# Altium schematic symbol library LORASX1278SENSOR.SchLib: 1 symbol
Pins are listed as number, name and electrical type; pins without a type are passive.

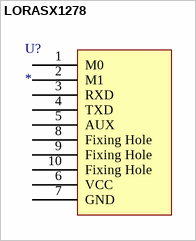
[diagram p0: symbol LORASX1278]

## LORASX1278
designator U?
footprint QFN65P600X600X100_HS-29N (QFN, 28-Leads, Body 6,00x6,00mm, Pitch 0,65mm, Thermal Pad 4,78x4,78mm, IPC Medium Density)
pins: 1 M0, 2 M1, 3 RXD, 4 TXD, 5 AUX, 6 VCC, 7 GND, 8 Fixing Hole, 9 Fixing Hole, 10 Fixing Hole